# Altium footprint library Pcb44b0x1.PcbLib: 46 footprints (part 2 of 3)
Each footprint in its own frame and in the unit in brackets; x right, y up, seen from the top. Pads: shape width x height; smd on the part's side, far side on the other; paste and mask are expansions set on the pad; w line width, h text height; cw(c..) or ccw(c..) is an arc to the next point about the centre after c.
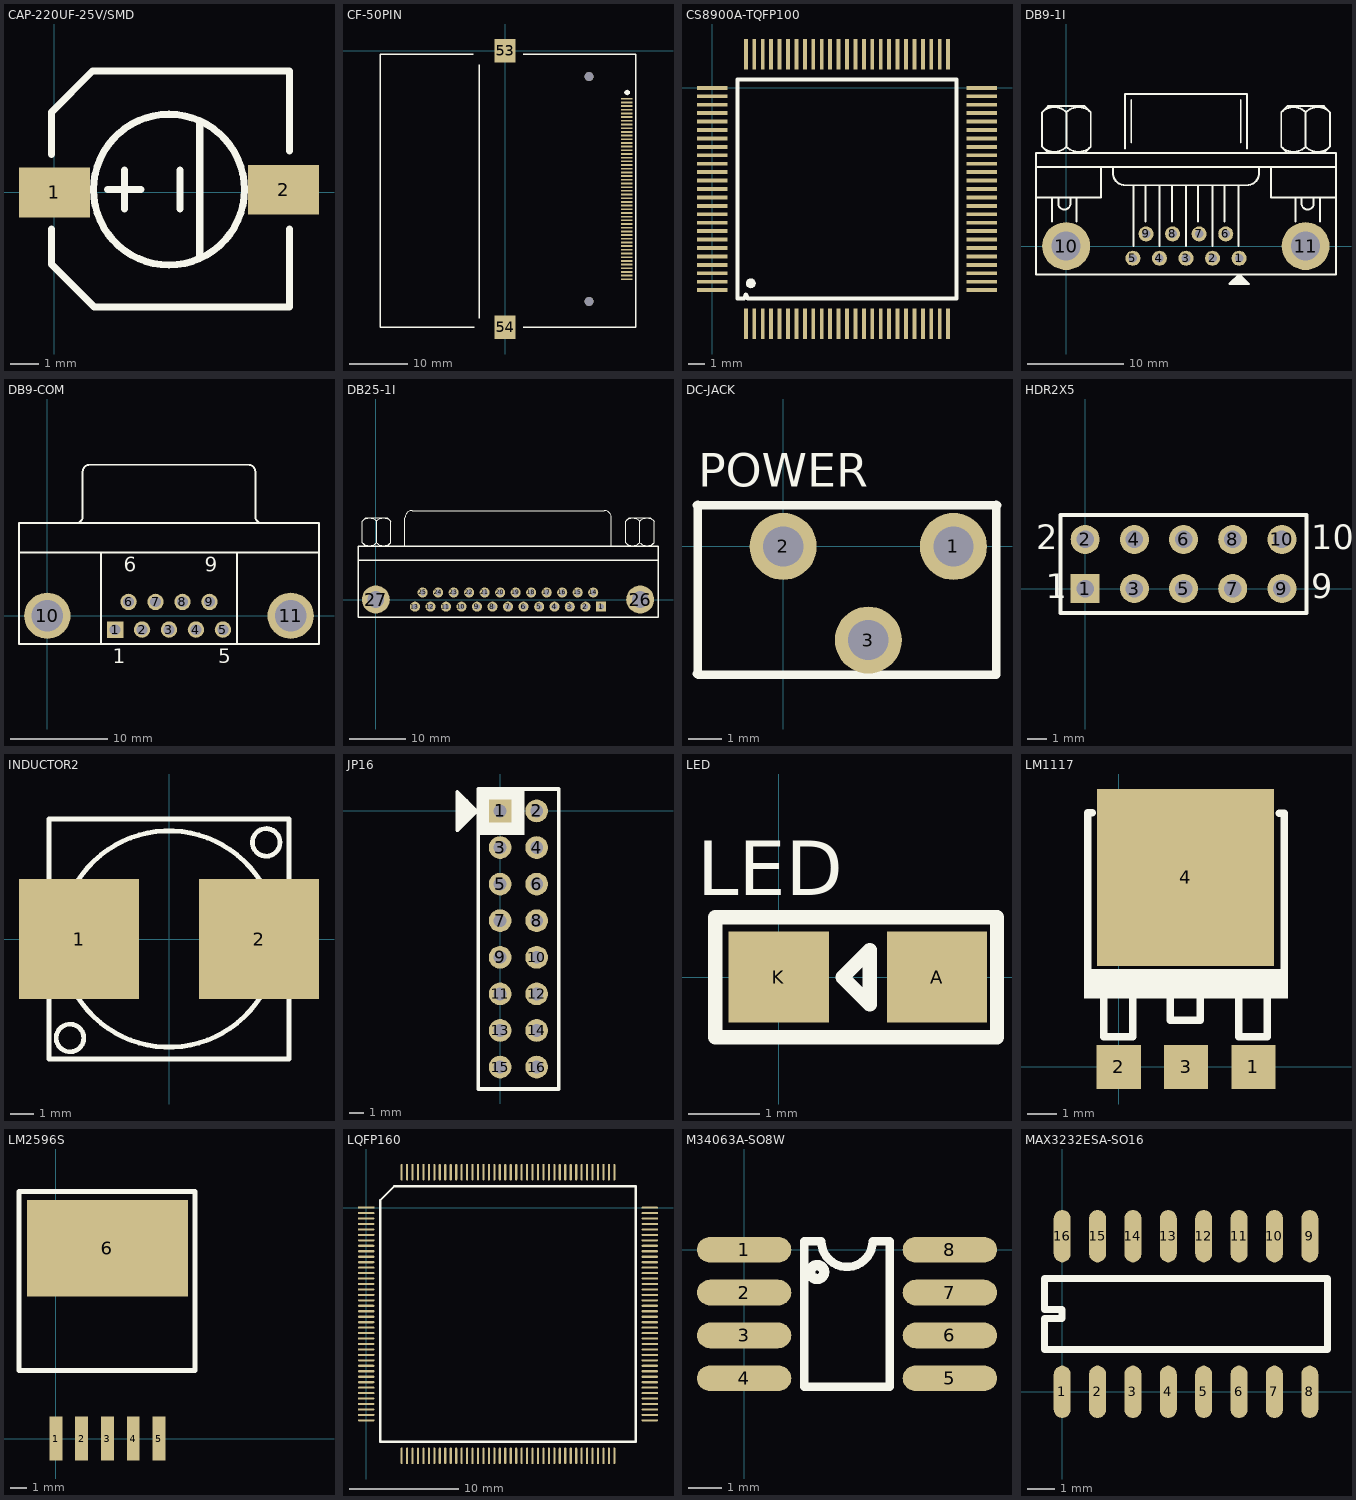
[diagram p1: the footprints below, top view; thin cyan lines are the x and y axes]

## CAP-220UF-25V/SMD [mil]
pads (2):
  rect 100x70 smd: 1(0,0) 2(322.83,3.93)
Top Overlay:
  circle w10: c161.41,3.93 r106.3
  lines w10: -3.94,-51.42 -3.94,-101.42 56.06,-161.42 331.06,-161.42 331.06,-51.42 ; -3.94,53.58 -3.94,113.58 53.56,171.08 331.06,171.08 331.06,58.58 ; 74.8,3.93 122.04,3.93 ; 98.42,-23.62 98.42,31.49 ; 177.16,-23.62 177.16,31.49 ; 204.72,-90.55 204.72,98.42

## CF-50PIN [mil]
pads (54):
  rect 80x12 smd: 1(825,-325) 2(825,-375) 3(825,-425) 4(825,-475) 5(825,-525) 6(825,-575) 7(825,-625) 8(825,-675) 9(825,-725) 10(825,-775) 11(825,-825) 12(825,-875) 13(825,-925) 14(825,-975) 15(825,-1025) 16(825,-1075) 17(825,-1125) 18(825,-1175) 19(825,-1225) 20(825,-1275) 21(825,-1325) 22(825,-1375) 23(825,-1425) 24(825,-1475) 25(825,-1525) 26(825,-350) 27(825,-400) 28(825,-450) 29(825,-500) 30(825,-550) 31(825,-600) 32(825,-650) 33(825,-700) 34(825,-750) 35(825,-800) 36(825,-850) 37(825,-900) 38(825,-950) 39(825,-1000) 40(825,-1050) 41(825,-1100) 42(825,-1150) 43(825,-1200) 44(825,-1250) 45(825,-1300) 46(825,-1350) 47(825,-1400) 48(825,-1450) 49(825,-1500) 50(825,-1550)
  round 60 hole 60: 51(570,-175) 52(570,-1700)
  rect 140x160 smd: 53(0,0) 54(0,-1875)
Top Overlay:
  region: 846.04,-283 844.66,-276.1 840.75,-270.25 834.9,-266.34 828,-264.96 821.1,-266.34 815.25,-270.25 811.34,-276.1 809.96,-283 811.34,-289.9 815.25,-295.75 821.1,-299.66 828,-301.04 834.9,-299.66 840.75,-295.75 844.66,-289.9
  lines w10: -217,-25 -845,-25 -845,-1875 -210,-1875 ; -175,-1815 -175,-95 ; 125,-1875 885,-1875 885,-25 125,-25

## CS8900A-TQFP100 [mm]
pads (100):
  rect 0.23x1.8 smd: 1(2,-14) 2(2.5,-14) 3(3,-14) 4(3.5,-14) 5(4,-14) 6(4.5,-14) 7(5,-14) 8(5.5,-14) 9(6,-14) 10(6.5,-14) 11(7,-14) 12(7.5,-14) 13(8,-14) 14(8.5,-14) 15(9,-14) 16(9.5,-14) 17(10,-14) 18(10.5,-14) 19(11,-14) 20(11.5,-14) 21(12,-14) 22(12.5,-14) 23(13,-14) 24(13.5,-14) 25(14,-14) 51(14,2) 52(13.5,2) 53(13,2) 54(12.5,2) 55(12,2) 56(11.5,2) 57(11,2) 58(10.5,2) 59(10,2) 60(9.5,2) 61(9,2) 62(8.5,2) 63(8,2) 64(7.5,2) 65(7,2) 66(6.5,2) 67(6,2) 68(5.5,2) 69(5,2) 70(4.5,2) 71(4,2) 72(3.5,2) 73(3,2) 74(2.5,2) 75(2,2)
  rect 1.8x0.23 smd: 26(16,-12) 27(16,-11.5) 28(16,-11) 29(16,-10.5) 30(16,-10) 31(16,-9.5) 32(16,-9) 33(16,-8.5) 34(16,-8) 35(16,-7.5) 36(16,-7) 37(16,-6.5) 38(16,-6) 39(16,-5.5) 40(16,-5) 41(16,-4.5) 42(16,-4) 43(16,-3.5) 44(16,-3) 45(16,-2.5) 46(16,-2) 47(16,-1.5) 48(16,-1) 49(16,-0.5) 50(16,0) 76(0,0) 77(0,-0.5) 78(0,-1) 79(0,-1.5) 80(0,-2) 81(0,-2.5) 82(0,-3) 83(0,-3.5) 84(0,-4) 85(0,-4.5) 86(0,-5) 87(0,-5.5) 88(0,-6) 89(0,-6.5) 90(0,-7) 91(0,-7.5) 92(0,-8) 93(0,-8.5) 94(0,-9) 95(0,-9.5) 96(0,-10) 97(0,-10.5) 98(0,-11) 99(0,-11.5) 100(0,-12)
Top Overlay:
  region: 2.588,-11.6 2.566,-11.49 2.504,-11.396 2.41,-11.334 2.3,-11.312 2.19,-11.334 2.096,-11.396 2.034,-11.49 2.012,-11.6 2.034,-11.71 2.096,-11.804 2.19,-11.866 2.3,-11.888 2.41,-11.866 2.504,-11.804 2.566,-11.71
  lines w0.254: 1.5,-12.5 1.885,-12.5 2,-12.27 2.115,-12.5 14.5,-12.5 14.5,0.5 1.5,0.5 1.5,-12.5

## DB9-1I [mil]
pads (11):
  round 62 hole 35: 1(710.83,-50) 2(601.66,-50) 3(492.5,-50) 4(383.33,-50) 5(274.16,-50) 6(655.83,50) 7(546.66,50) 8(437.5,50) 9(328.33,50)
  round 197 hole 119: 10(0,0) 11(984.16,0)
Top Overlay:
  lines w8: -124.17,325.2 1109.16,325.2 ; -122.2,200 -107.5,200 142.5,200 142.5,323.45 ; -99.25,408.45 ccw(c-49.17,458.53) 0.91,408.45 0.92,550.28 ccw(c-49.16,500.19) -99.25,550.28 ; -74.17,383.53 -99.17,408.53 -99.17,550.2 -74.17,575.2 75.83,575.2 100.83,550.2 100.83,408.53 75.83,383.53 ; -57.5,100 -57.5,200 ; -32.5,200 -32.5,175 ccw(c-7.5,175) 17.5,175 17.5,200 ; 0.75,408.45 ccw(c50.83,458.53) 100.91,408.45 ; 0.75,550.28 cw(c50.84,500.19) 100.92,550.28 ; 42.5,100 42.5,200 ; 192.5,324.19 192.5,300 ccw(c242.5,300) 242.5,250 742.5,250 ccw(c742.5,300) 792.5,300 792.5,323.85 ; 242.5,400.2 242.5,625.2 742.5,625.2 742.5,400.2 ; 267.5,425.2 267.5,600.2 ; 275.83,0 275.83,250 ; 325.83,100 325.83,250 ; 384.16,0 384.16,250 ; 434.16,100 434.16,250 ; 492.5,0 492.5,250 ; 542.5,100 542.5,250 ; 600.83,0 600.83,250 ; 650.83,100 650.83,108.33 650.83,250 ; 678.38,-148.33 742.76,-148.33 ; 686.35,-140.35 734.78,-140.35 ; 694.03,-132.68 727.11,-132.68 ; 701.19,-125.51 720.14,-125.51 ; 709.16,0 709.16,250 ; 717.5,425.2 717.5,600.2 ; 842.5,323.79 842.5,200 1092.5,200 1107.19,200 ; 884.08,408.45 ccw(c934.16,458.54) 984.25,408.45 984.25,550.28 ccw(c934.16,500.19) 884.08,550.28 ; 909.16,383.53 884.16,408.53 884.16,550.2 909.16,575.2 1059.16,575.2 1084.16,550.2 1084.16,408.53 1059.16,383.53 ; 942.5,100 942.5,200 ; 967.5,200 967.5,175 ccw(c992.5,175) 1017.5,175 1017.5,200 ; 984.08,408.45 ccw(c1034.16,458.54) 1084.25,408.45 ; 984.08,550.28 cw(c1034.16,500.19) 1084.25,550.28 ; 1042.5,100 1042.5,200 ; -124.17,-116.67 -124.17,383.53 1109.16,383.53 1109.16,-116.67 -124.17,-116.67 ; 670.83,-155.87 710.83,-115.87 750.83,-155.87 670.83,-155.87
Multi-Layer:
  text "1" at 766.29,-69.68 h25
  text "5" at 187.55,-73.62 h25
  text "9" at 222.98,20.87 h25
  text "6" at 730.83,20 h25

## DB9-COM [mm]
pads (11):
  rect 1.69x1.69 hole 1.09: 1(6.955,-1.42)
  round 1.69 hole 1.09: 2(9.725,-1.42) 3(12.495,-1.42) 4(15.265,-1.42) 5(18.035,-1.42) 6(8.34,1.42) 7(11.11,1.42) 8(13.88,1.42) 9(16.65,1.42)
  round 4.76 hole 3.26: 10(0,0) 11(24.99,0)
Top Overlay:
  lines w0.2: -2.905,6.5 27.895,6.5 ; 2.935,9.505 ccw(c2.935,10.2) 3.63,10.2 3.63,14.8 ; 3.635,14.805 cw(c4.33,14.805) 4.33,15.5 20.66,15.5 cw(c20.66,14.805) 21.355,14.805 ; 5.495,-2.9 5.495,6.5 ; 19.495,-2.9 19.495,6.5 ; 21.36,14.8 21.36,10.2 ccw(c22.055,10.2) 22.055,9.505 ; -2.905,-2.9 -2.905,9.5 27.895,9.5 27.895,-2.9 -2.905,-2.9
  text "1" at 6.705,-4.875 h1.5
  text "5" at 17.535,-4.875 h1.5
  text "9" at 16.15,4.525 h1.5
  text "6" at 7.84,4.525 h1.5

## DB25-1I [mm]
pads (27):
  rect 1.8x1.8 hole 1: 1(40.208,-1.27)
  round 1.8 hole 1: 2(37.414,-1.27) 3(34.62,-1.27) 4(31.902,-1.27) 5(29.159,-1.27) 6(26.365,-1.27) 7(23.597,-1.27) 8(20.828,-1.27) 9(18.059,-1.27) 10(15.291,-1.27) 11(12.522,-1.27) 12(9.754,-1.27) 13(6.985,-1.27) 14(38.811,1.27) 15(36.043,1.27) 16(33.274,1.27) 17(30.505,1.27) 18(27.737,1.27) 19(24.968,1.27) 20(22.2,1.27) 21(19.431,1.27) 22(16.662,1.27) 23(13.894,1.27) 24(11.125,1.27) 25(8.357,1.27)
  round 5 hole 3: 26(47.193,0) 27(0,0)
Top Overlay:
  lines w0.203: -2.415,10.158 ccw(c-1.143,11.43) 0.129,10.158 0.129,13.972 ccw(c-1.143,12.7) -2.415,13.972 ; -1.778,9.525 -2.413,10.16 -2.413,13.97 -1.778,14.605 2.032,14.605 2.667,13.97 2.667,10.16 2.032,9.525 ; 0.125,10.158 ccw(c1.397,11.43) 2.669,10.158 ; 0.125,13.972 cw(c1.397,12.7) 2.669,13.972 ; 5.207,9.525 5.207,14.605 cw(c6.477,14.605) 6.477,15.875 40.767,15.875 cw(c40.767,14.605) 42.037,14.605 42.037,9.525 ; 44.575,10.158 ccw(c45.847,11.43) 47.119,10.158 47.119,13.972 ccw(c45.847,12.7) 44.575,13.972 ; 45.212,9.525 44.577,10.16 44.577,13.97 45.212,14.605 49.022,14.605 49.657,13.97 49.657,10.16 49.022,9.525 ; 47.115,10.158 ccw(c48.387,11.43) 49.659,10.158 ; 47.115,13.972 cw(c48.387,12.7) 49.659,13.972
  lines w0.254: -3.175,7.036 50.368,7.036 ; -3.175,-3.175 -3.175,9.525 50.368,9.525 50.368,-3.175 -3.175,-3.175
Multi-Layer:
  text "Comment" at 4.763,16.942 h0.64

## DC-JACK [mm]
pads (3):
  round 2 hole 1.2: 1(5.08,0) 2(0,0) 3(2.54,-2.794)
Top Overlay:
  lines w0.254: -2.572,-3.793 -2.538,-3.827 6.35,-3.827 6.35,1.218 6.333,1.235 -2.572,1.235 ; -2.543,1.24 -2.543,-3.788 -2.509,-3.822 ; 6.362,1.24 6.379,1.223
  text "POWER" at -2.54,1.778 h1

## HDR2X5 [mm]
pads (10):
  rect 1.5x1.5 hole 0.9: 1(0,0)
  round 1.5 hole 0.9: 2(0,2.54) 3(2.54,0) 4(2.54,2.54) 5(5.08,0) 6(5.08,2.54) 7(7.62,0) 8(7.62,2.54) 9(10.16,0) 10(10.16,2.54)
Top Overlay:
  lines w0.2: -1.27,-1.27 11.43,-1.27 11.43,3.81 -1.27,3.81 -1.27,-1.27
  text "10" at 11.684,2.032 h1.27
  text "9" at 11.684,-0.508 h1.27
  text "1" at -2.032,-0.508 h1.27
  text "2" at -2.54,2.032 h1.27

## INDUCTOR2 [mm]
pads (2):
  rect 5.08x5.08 smd: 1(-3.81,0) 2(3.81,0)
Top Overlay:
  circle w0.203: c4.115,4.089 r0.584
  circle w0.203: c-4.191,-4.191 r0.584
  circle w0.203: c0,0 r4.579
  lines w0.203: -5.08,-5.08 -5.08,5.08 5.08,5.08 5.08,-5.08 -5.08,-5.08

## JP16 [mil]
pads (16):
  rect 62x62 hole 35: 1(0,0)
  round 62 hole 35: 2(100,0) 3(0,-100) 4(100,-100) 5(0,-200) 6(100,-200) 7(0,-300) 8(100,-300) 9(0,-400) 10(100,-400) 11(0,-500) 12(100,-500) 13(0,-600) 14(100,-600) 15(0,-700) 16(100,-700)
Top Overlay:
  region: -60,-64.57 65.35,-64.57 65.35,60 -60,60
  lines w10: -116.93,-20.47 -116.93,-52.76 -116.54,-53.15 -116.54,-52.76 -63.94,-0.16 -63.94,0 -63.94,-1.18 -63.94,-1.02 -116.93,51.97 -116.93,-35.83 -109.57,-39.25 -109.57,44.61 ; -100.86,35.9 -100.86,-33 -100.79,-33.07 ; -92.52,-25.59 -92.03,-25.1 -92.03,27.07 ; -83.43,-12.96 -83.43,18.47 ; -76.1,-6.02 -76.1,11.13 ; -60,-50 50,-50 50,60 ; -60,-760 -60,-660 -60,60 0,60 160,60 160,-660 160,-760 -60,-760

## LED [mm]
pads (2):
  rect 1.4x1.27 smd: A(2.21,0) K(0,0)
Top Overlay:
  lines w0.2: -0.889,-0.838 3.048,-0.838 3.048,0.838 2.064,0.838 0.095,0.838 -0.889,0.838 -0.889,-0.838 ; 0.889,0 1.27,-0.381 1.27,0.381 0.889,0
  text "LED" at -1.143,1.143 h0.76

## LM1117 [mm]
pads (4):
  rect 1.5x1.5 smd: 1(4.572,0) 2(0,0) 3(2.286,0)
  rect 6x6 smd: 4(2.272,6.425)
Top Overlay:
  rectangle: -1.178,2.325 5.747,3.325
  lines w0.254: -1.053,3.15 -1.053,8.625 ; -1.028,8.625 -0.903,8.625 ; -0.503,2.275 -0.503,1.025 0.472,1.025 0.472,2.3 ; 1.747,2.275 1.747,1.575 2.772,1.575 2.772,2.375 ; 4.072,2.275 4.072,1.025 5.047,1.025 5.047,2.3 ; 5.447,8.6 5.597,8.6 ; 5.622,3.175 5.622,8.6

## LM2596S [mm]
pads (6):
  rect 0.8x2.7 smd: 1(0,0) 2(1.6,0) 3(3.2,0) 4(4.8,0) 5(6.4,0)
  rect 10x6 smd: 6(3.2,11.8)
Top Overlay:
  lines w0.305: -2.286,4.208 -2.286,15.333 8.636,15.333 8.636,4.208 -2.286,4.208
Bottom Paste:
  lines w0.254: 6.328,2.091 16.328,2.091 16.328,6.391 6.328,6.391 6.328,2.091
Multi-Layer:
  text "Comment" at -1.927,15.003 h0.64

## LQFP160 [mm]
pads (160):
  rect 1.5x0.2 smd: 1(0,0)
  oval 1.5x0.2 smd: 2(0,-0.5) 3(0,-1) 4(0,-1.5) 5(0,-2) 6(0,-2.5) 7(0,-3) 8(0,-3.5) 9(0,-4) 10(0,-4.5) 11(0,-5) 12(0,-5.5) 13(0,-6) 14(0,-6.5) 15(0,-7) 16(0,-7.5) 17(0,-8) 18(0,-8.5) 19(0,-9) 20(0,-9.5) 21(0,-10) 22(0,-10.5) 23(0,-11) 24(0,-11.5) 25(0,-12) 26(0,-12.5) 27(0,-13) 28(0,-13.5) 29(0,-14) 30(0,-14.5) 31(0,-15) 32(0,-15.5) 33(0,-16) 34(0,-16.5) 35(0,-17) 36(0,-17.5) 37(0,-18) 38(0,-18.5) 39(0,-19) 40(0,-19.5) 81(26,-19.5) 82(26,-19) 83(26,-18.5) 84(26,-18) 85(26,-17.5) 86(26,-17) 87(26,-16.5) 88(26,-16) 89(26,-15.5) 90(26,-15) 91(26,-14.5) 92(26,-14) 93(26,-13.5) 94(26,-13) 95(26,-12.5) 96(26,-12) 97(26,-11.5) 98(26,-11) 99(26,-10.5) 100(26,-10) 101(26,-9.5) 102(26,-9) 103(26,-8.5) 104(26,-8) 105(26,-7.5) 106(26,-7) 107(26,-6.5) 108(26,-6) 109(26,-5.5) 110(26,-5) 111(26,-4.5) 112(26,-4) 113(26,-3.5) 114(26,-3) 115(26,-2.5) 116(26,-2) 117(26,-1.5) 118(26,-1) 119(26,-0.5) 120(26,0)
  oval 0.2x1.5 smd: 41(3.25,-22.75) 42(3.75,-22.75) 43(4.25,-22.75) 44(4.75,-22.75) 45(5.25,-22.75) 46(5.75,-22.75) 47(6.25,-22.75) 48(6.75,-22.75) 49(7.25,-22.75) 50(7.75,-22.75) 51(8.25,-22.75) 52(8.75,-22.75) 53(9.25,-22.75) 54(9.75,-22.75) 55(10.25,-22.75) 56(10.75,-22.75) 57(11.25,-22.75) 58(11.75,-22.75) 59(12.25,-22.75) 60(12.75,-22.75) 61(13.25,-22.75) 62(13.75,-22.75) 63(14.25,-22.75) 64(14.75,-22.75) 65(15.25,-22.75) 66(15.75,-22.75) 67(16.25,-22.75) 68(16.75,-22.75) 69(17.25,-22.75) 70(17.75,-22.75) 71(18.25,-22.75) 72(18.75,-22.75) 73(19.25,-22.75) 74(19.75,-22.75) 75(20.25,-22.75) 76(20.75,-22.75) 77(21.25,-22.75) 78(21.75,-22.75) 79(22.25,-22.75) 80(22.75,-22.75) 121(22.75,3.25) 122(22.25,3.25) 123(21.75,3.25) 124(21.25,3.25) 125(20.75,3.25) 126(20.25,3.25) 127(19.75,3.25) 128(19.25,3.25) 129(18.75,3.25) 130(18.25,3.25) 131(17.75,3.25) 132(17.25,3.25) 133(16.75,3.25) 134(16.25,3.25) 135(15.75,3.25) 136(15.25,3.25) 137(14.75,3.25) 138(14.25,3.25) 139(13.75,3.25) 140(13.25,3.25) 141(12.75,3.25) 142(12.25,3.25) 143(11.75,3.25) 144(11.25,3.25) 145(10.75,3.25) 146(10.25,3.25) 147(9.75,3.25) 148(9.25,3.25) 149(8.75,3.25) 150(8.25,3.25) 151(7.75,3.25) 152(7.25,3.25) 153(6.75,3.25) 154(6.25,3.25) 155(5.75,3.25) 156(5.25,3.25) 157(4.75,3.25) 158(4.25,3.25) 159(3.75,3.25) 160(3.25,3.25)
Top Overlay:
  lines w0.2: 1.285,-21.465 24.715,-21.465 24.715,1.965 2.57,1.965 1.285,0.68 1.285,-21.465

## M34063A-SO8W [mil]
pads (8):
  oval 110x30 smd: 1(0,0) 2(0,-50) 3(0,-100) 4(0,-150) 5(240,-150) 6(240,-100) 7(240,-50) 8(240,0)
Top Overlay:
  circle w12: c85.18,-26.11 r8.12
  lines w10: 70,-160 170,-160 170,10 150,10 cw(c120,10) 90,10 70,10 70,-160

## MAX3232ESA-SO16 [mil]
pads (16):
  oval 24x74 smd: 1(0,0) 2(50,0) 3(100,0) 4(150,0) 5(200,0) 6(250,0) 7(300,0) 8(350,0) 9(350,220) 10(300,220) 11(250,220) 12(200,220) 13(150,220) 14(100,220) 15(50,220) 16(0,220)
Top Overlay:
  lines w10: -25,60 375,60 375,160 -25,160 -25,116.25 0,116.25 0,103.75 -25,103.75 -25,60